# Altium footprint library Footprint.PcbLib: 97 footprints (part 5 of 7)
Each footprint in its own frame and in the unit in brackets; x right, y up, seen from the top. Pads: shape width x height; smd on the part's side, far side on the other; paste and mask are expansions set on the pad; w line width, h text height; cw(c..) or ccw(c..) is an arc to the next point about the centre after c.
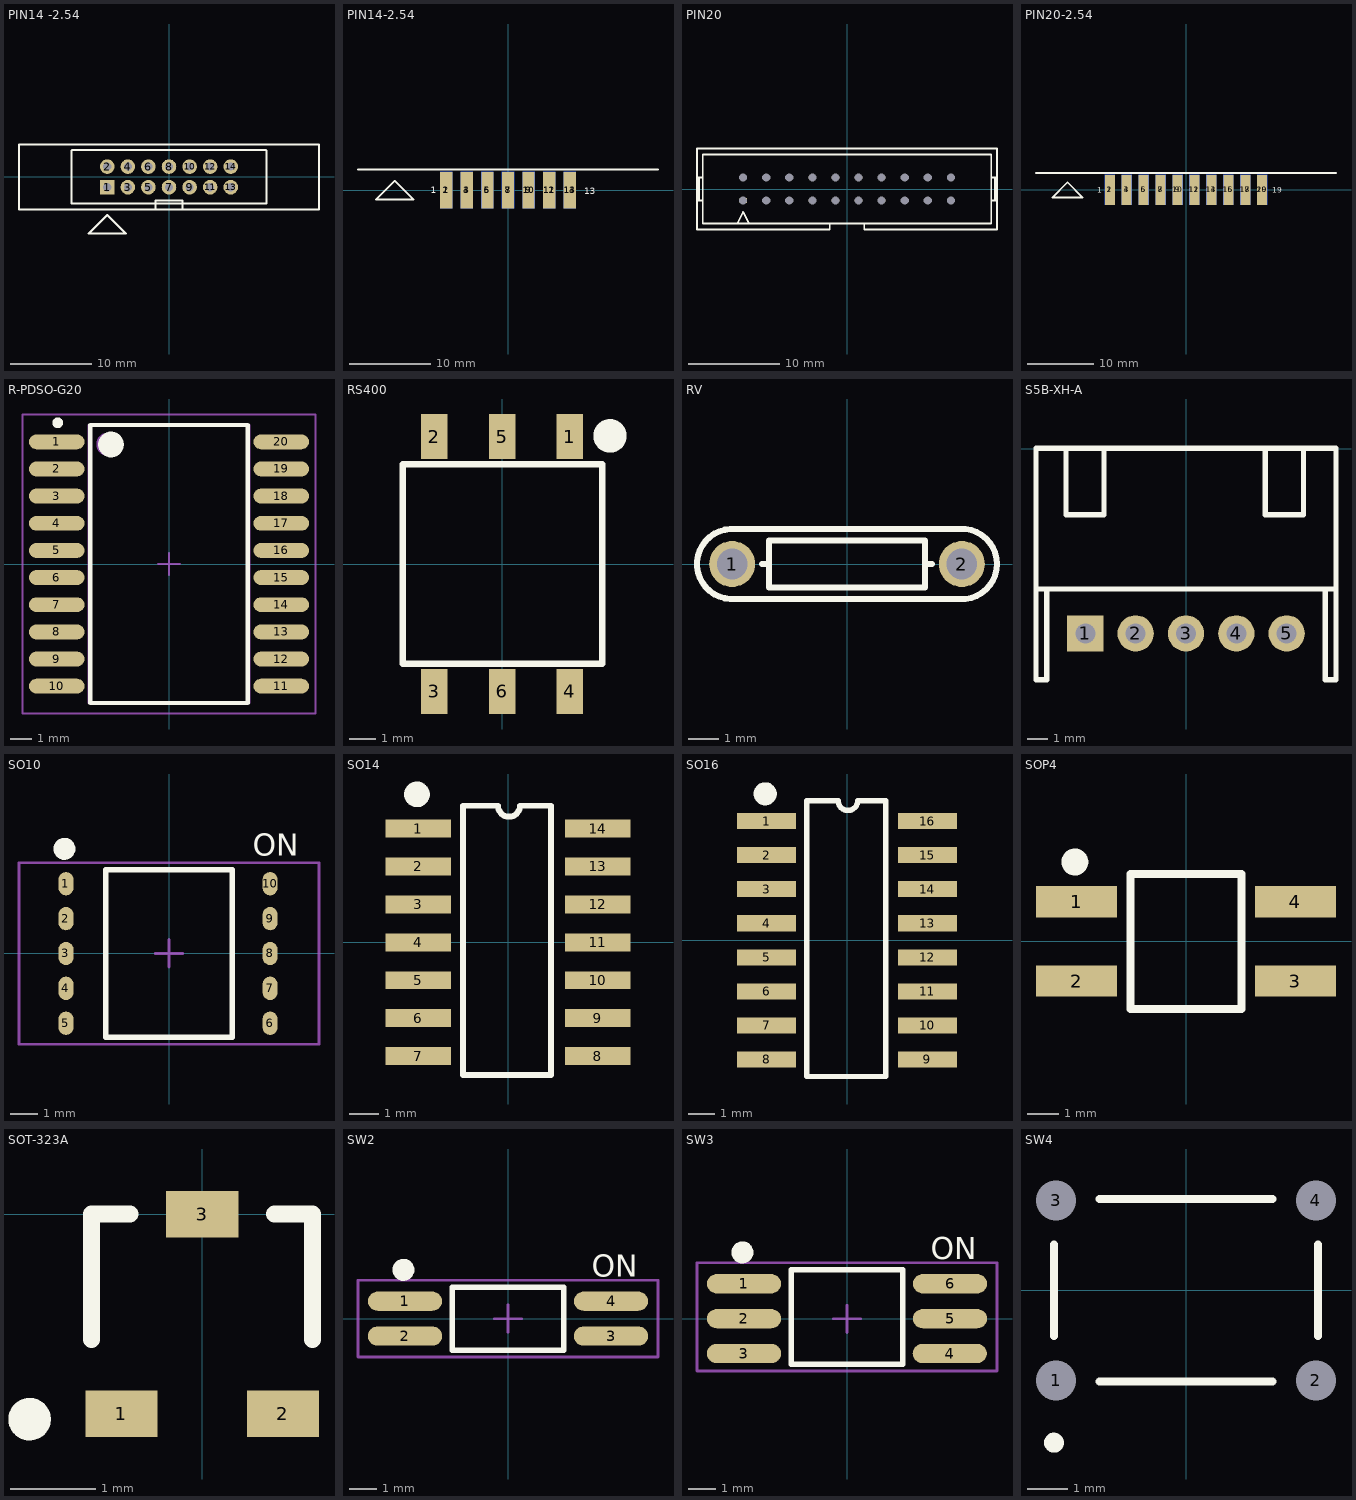
[diagram p4: the footprints below, top view; thin cyan lines are the x and y axes]

## PIN14 -2.54 [mm]
pads (14):
  rect 1.8x1.8 hole 1: 1(-7.62,-1.27)
  round 1.8 hole 1: 2(-7.62,1.27) 3(-5.08,-1.27) 4(-5.08,1.27) 5(-2.54,-1.27) 6(-2.54,1.27) 7(0,-1.27) 8(0,1.27) 9(2.54,-1.27) 10(2.54,1.27) 11(5.08,-1.27) 12(5.08,1.27) 13(7.62,-1.27) 14(7.62,1.27)
Top Overlay:
  lines w0.254: -1.65,-4 -1.65,-2.921 1.651,-2.921 1.651,-4 ; 11.935,3.302 -11.935,3.302 -12,3.237 -12,-3.302 12,-3.302 12,3.237 ; -18.5,-4 -18.5,4 18.5,4 18.5,-4 -18.5,-4 ; -9.906,-6.985 -5.334,-6.985 -7.62,-4.699 -9.906,-6.985

## PIN14-2.54 [mm]
pads (14):
  rect 1.5x4.5 smd: 1(-7.62,0) 3(-5.08,0) 5(-2.54,0) 7(0,0) 9(2.54,0) 11(5.08,0) 13(7.62,0)
  rect 1.5x4.5 smd far side: 2(-7.62,0) 4(-5.08,0) 6(-2.54,0) 8(0,0) 10(2.54,0) 12(5.08,0) 14(7.62,0)
Top Overlay:
  lines w0.254: -18.5,2.54 18.5,2.54 ; -16.256,-1.143 -11.684,-1.143 -13.97,1.143 -16.256,-1.143
  text "1" at -9.525,-0.381 h0.8
  text "13" at 9.398,-0.508 h0.8
Bottom Overlay:
  text "2" at -9.144,-0.381 h0.8
  text "14" at 10.541,-0.508 h0.8

## PIN20 [mm]
pads (20):
  rect 0.85x0.55 hole 0.9: 1(-11.43,-1.27)
  oval 0.85x0.55 hole 0.9: 2(-11.43,1.27) 3(-8.89,-1.27) 4(-8.89,1.27) 5(-6.35,-1.27) 6(-6.35,1.27) 7(-3.81,-1.27) 8(-3.81,1.27) 9(-1.27,-1.27) 10(-1.27,1.27) 11(1.27,-1.27) 12(1.27,1.27) 13(3.81,-1.27) 14(3.81,1.27) 15(6.35,-1.27) 16(6.35,1.27) 17(8.89,-1.27) 18(8.89,1.27) 19(11.43,-1.27) 20(11.43,1.27)
Top Overlay:
  lines w0.203: -16.51,-1.27 -15.875,-1.27 ; -16.51,1.27 -15.875,1.27 ; -16.298,-1.27 -16.298,1.27 ; -12.065,-3.81 -11.43,-2.54 -10.795,-3.81 ; -8.625,-4.445 -1.905,-4.445 -1.905,-3.81 ; -8.255,-4.445 -16.51,-4.445 -16.51,4.445 16.51,4.445 16.51,-4.445 8.255,-4.445 1.905,-4.445 1.905,-3.81 ; 15.875,-1.27 16.51,-1.27 ; 15.875,1.27 16.51,1.27 ; 16.298,-1.27 16.298,1.27 ; -1.905,-3.81 1.905,-3.81 ; -1.905,-3.81 -15.875,-3.81 -15.875,3.81 15.875,3.81 15.875,-3.81 1.905,-3.81

## PIN20-2.54 [mm]
pads (20):
  rect 1.5x4.5 smd: 1(-11.43,0) 3(-8.89,0) 5(-6.35,0) 7(-3.81,0) 9(-1.27,0) 11(1.27,0) 13(3.81,0) 15(6.35,0) 17(8.89,0) 19(11.43,0)
  rect 1.5x4.5 smd far side: 2(-11.43,0) 4(-8.89,0) 6(-6.35,0) 8(-3.81,0) 10(-1.27,0) 12(1.27,0) 14(3.81,0) 16(6.35,0) 18(8.89,0) 20(11.43,0)
Top Overlay:
  lines w0.254: -22.5,2.54 22.5,2.54 ; -20.066,-1.143 -17.78,1.143 -15.494,-1.143 -20.066,-1.143
  text "19" at 12.954,-0.381 h0.8
  text "1" at -13.335,-0.381 h0.8
Bottom Overlay:
  text "20" at 14.097,-0.381 h0.8
  text "2" at -12.954,-0.381 h0.8

## R-PDSO-G20 [mm]
pads (20):
  oval 2.6x0.7 smd: 1(-5.25,5.715) 2(-5.25,4.445) 3(-5.25,3.175) 4(-5.25,1.905) 5(-5.25,0.635) 6(-5.25,-0.635) 7(-5.25,-1.905) 8(-5.25,-3.175) 9(-5.25,-4.445) 10(-5.25,-5.715) 11(5.25,-5.715) 12(5.25,-4.445) 13(5.25,-3.175) 14(5.25,-1.905) 15(5.25,-0.635) 16(5.25,0.635) 17(5.25,1.905) 18(5.25,3.175) 19(5.25,4.445) 20(5.25,5.715)
Top Overlay:
  circle w0.6: c-2.713,5.588 r0.3
  circle w0.25: c-5.205,6.604 r0.125
  lines w0.2: -3.683,-6.5 3.683,-6.5 3.683,6.5 -3.683,6.5 -3.683,-6.5
Mechanical 13:
  circle w0.1: c-2.85,5.6 r0.5
  lines w0.1: -3.75,-6.5 3.75,-6.5 3.75,6.5 -3.75,6.5 -3.75,-6.5
Mechanical 15:
  lines w0.1: -0.5,0 0.5,0 ; 0,-0.5 0,0.5 ; -6.858,-7 6.858,-7 6.858,7 -6.858,7 -6.858,-7
3D body: height 2.65, standoff 0, extent -3.75,-6.5 3.75,6.5

## RS400 [mm]
pads (6):
  rect 1x1.7 smd: 1(2.553,4.801) 2(-2.553,4.801) 3(-2.553,-4.801) 4(2.553,-4.801) 5(0.013,4.801) 6(0.013,-4.801)
Top Overlay:
  circle w1: c4.064,4.826 r0.127
  lines w0.254: -3.746,-3.759 -3.746,3.759 3.772,3.759 3.772,-3.759 -3.746,-3.759

## RV [mm]
pads (2):
  round 1.5 hole 1: 1(-3.75,0) 2(3.75,0)
Top Overlay:
  lines w0.2: -2.769,0 -2.54,0 ; 2.769,0 2.54,0 ; 2.54,0 2.54,-0.762 -2.54,-0.762 -2.54,0.762 2.54,0.762 2.54,0 ; -3.81,-1.143 cw(c-3.75,0) -3.81,1.143 3.683,1.143 cw(c3.75,0) 3.683,-1.143 -3.81,-1.143

## S5B-XH-A [mm]
pads (5):
  rect 1.8x1.8 hole 1: 1(-5,-9.166)
  round 1.8 hole 1: 2(-2.5,-9.166) 3(0,-9.166) 4(2.5,-9.166) 5(5,-9.166)
Top Overlay:
  lines w0.254: -7.45,-6.966 7.45,-6.966 ; -6.858,-6.966 -6.915,-7.023 -6.915,-11.466 -7.45,-11.466 -7.45,0.034 7.45,0.034 7.45,-11.466 6.915,-11.466 6.915,-7.023 6.858,-6.966 ; -5.969,0.034 -5.969,-3.268 -4.064,-3.268 -4.064,0.034 ; 3.937,0.034 3.937,-3.268 5.842,-3.268 5.842,0.034

## SO10 [mm]
pads (10):
  oval 0.55x0.85 smd: 1(-3.75,2.54) 2(-3.75,1.27) 3(-3.75,0) 4(-3.75,-1.27) 5(-3.75,-2.54) 6(3.683,-2.54) 7(3.683,-1.27) 8(3.683,0) 9(3.683,1.27) 10(3.683,2.54)
Top Overlay:
  circle w0.4: c-3.808,3.81 r0.2
  lines w0.2: -2.3,-3.048 -2.3,3.046 2.3,3.046 2.3,-3.048 -2.3,-3.048
  text "ON" at 3.048,3.556 h0.8
Mechanical 15:
  lines w0.1: -0.5,0 0.5,0 ; 0,-0.492 0,0.508 ; -5.461,-3.302 -5.461,3.302 5.461,3.302 5.461,-3.302 -5.461,-3.302

## SO14 [mm] "Wide = 6mm"
pads (14):
  rect 2.2x0.6 smd: 1(-3,3.81) 2(-3,2.54) 3(-3,1.27) 4(-3,0) 5(-3,-1.27) 6(-3,-2.54) 7(-3,-3.81) 8(3,-3.81) 9(3,-2.54) 10(3,-1.27) 11(3,0) 12(3,1.27) 13(3,2.54) 14(3,3.81)
Top Overlay:
  circle w0.5: c-3.048,4.953 r0.18
  lines w0.2: 0.4,4.572 cw(c0.034,4.572) -0.333,4.572 -1.5,4.572 -1.5,-4.445 1.445,-4.445 1.445,4.572 0.429,4.572

## SO16 [mm] "Wide = 6mm"
pads (16):
  rect 2.2x0.6 smd: 1(-3,4.445) 2(-3,3.175) 3(-3,1.905) 4(-3,0.635) 5(-3,-0.635) 6(-3,-1.905) 7(-3,-3.175) 8(-3,-4.445) 9(3,-4.445) 10(3,-3.175) 11(3,-1.905) 12(3,-0.635) 13(3,0.635) 14(3,1.905) 15(3,3.175) 16(3,4.445)
Top Overlay:
  circle w0.5: c-3.048,5.461 r0.18
  lines w0.2: 0.4,5.207 cw(c0.034,5.207) -0.333,5.207 -1.5,5.207 -1.5,-5.08 1.445,-5.08 1.445,5.207 0.429,5.207

## SOP4 [mm] "7 * 2.54"
pads (4):
  rect 2.6x1 smd: 1(-3.5,1.27) 2(-3.5,-1.27) 3(3.5,-1.27) 4(3.5,1.27)
Top Overlay:
  circle w0.5: c-3.556,2.54 r0.18
  lines w0.254: -1.778,-2.159 1.778,-2.159 1.778,2.159 -1.778,2.159 -1.778,-2.159

## SOT-323A [mm]
pads (3):
  rect 0.85x0.55 smd: 1(-0.95,-2.35) 2(0.95,-2.35) 3(0,0)
Top Overlay:
  circle w0.25: c-2.03,-2.413 r0.125
  lines w0.2: -1.3,-1.475 -1.3,0 -0.85,0 ; 0.85,0 1.3,0 1.3,-1.475

## SW2 [mm]
pads (4):
  oval 2.7x0.7 smd: 1(-3.75,0.635) 2(-3.75,-0.635) 3(3.75,-0.635) 4(3.75,0.635)
Top Overlay:
  circle w0.4: c-3.808,1.778 r0.2
  lines w0.2: -2.032,-1.143 2.032,-1.143 2.032,1.143 -2.032,1.143 -2.032,-1.143
  text "ON" at 3.048,1.524 h0.8
Mechanical 15:
  lines w0.1: -0.5,0 0.5,0 ; 0,-0.492 0,0.508 ; -5.461,-1.397 5.461,-1.397 5.461,1.397 -5.461,1.397 -5.461,-1.397

## SW3 [mm]
pads (6):
  oval 2.7x0.7 smd: 1(-3.75,1.27) 2(-3.75,0) 3(-3.75,-1.27) 4(3.743,-1.27) 5(3.75,0) 6(3.75,1.27)
Top Overlay:
  circle w0.4: c-3.808,2.413 r0.2
  lines w0.2: -2.032,-1.651 2.032,-1.651 2.032,1.778 -2.032,1.778 -2.032,-1.651
  text "ON" at 3.048,2.159 h0.8
Mechanical 15:
  lines w0.1: -0.5,0 0.5,0 ; 0,-0.508 0,0.492 ; -5.461,-1.905 5.461,-1.905 5.461,2.032 -5.461,2.032 -5.461,-1.905

## SW4 [mm]
pads (4):
  rect 0.55x0.85 hole 1: 1(-3.25,-2.25)
  oval 0.55x0.85 hole 1: 2(3.25,-2.25) 3(-3.25,2.25) 4(3.25,2.25)
Top Overlay:
  circle w0.25: c-3.3,-3.81 r0.125
  lines w0.2: -3.302,-1.143 -3.302,1.143 ; -2.159,-2.286 2.159,-2.286 ; -2.159,2.286 2.159,2.286 ; 3.302,-1.143 3.302,1.143